# EAGLE library part 1002C (library trafo-murata)
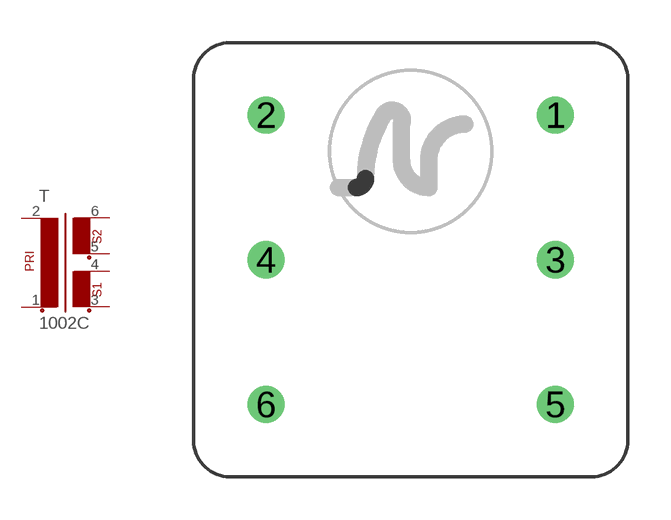
[diagram p0: symbol with the pads of 1002; footprint 1002]

Designator prefix T

## 1002C  [1002]
1  P1  pas
2  P2  pas
3  S11  pas
4  S12  pas
5  S21  pas
6  S22  pas

## Footprint 1002 (pad centres in mm)
drill 0.8 round: 1 5.08,5.08; 2 -5.08,5.08; 3 5.08,0; 4 -5.08,0; 5 5.08,-5.08; 6 -5.08,-5.08